# Altium footprint library IHLP-1212BZ.PcbLib: 1 footprints
Each footprint in its own frame and in the unit in brackets; x right, y up, seen from the top. Pads: shape width x height; smd on the part's side, far side on the other; paste and mask are expansions set on the pad; w line width, h text height; cw(c..) or ccw(c..) is an arc to the next point about the centre after c.
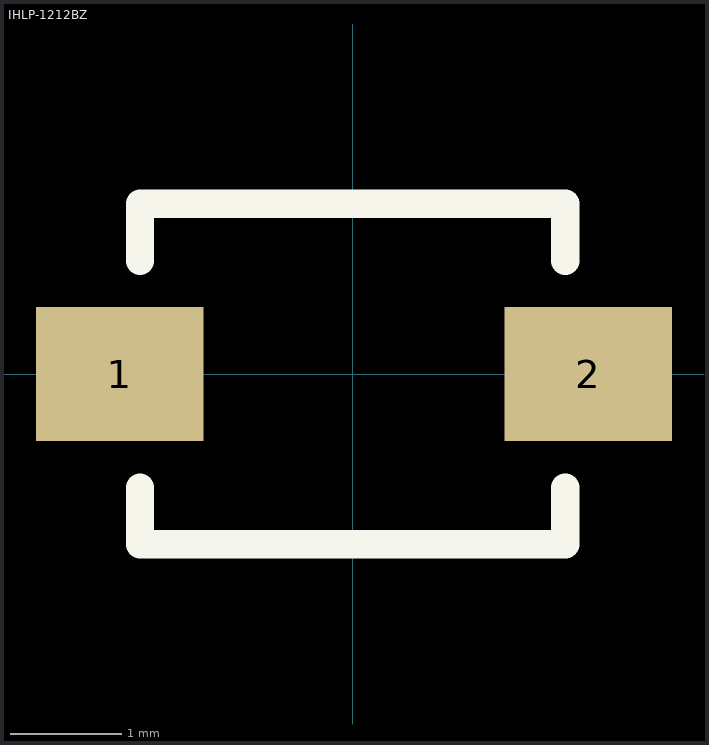
[diagram p0: the footprint, top view; thin cyan lines are the x and y axes]

## IHLP-1212BZ [mm]
height 2
pads (2):
  rect 1.5x1.2 smd: 1(-2.088,0) 2(2.112,0)
Top Overlay:
  lines w0.254: -1.905,-1.016 -1.905,-1.524 1.905,-1.524 1.905,-1.016 ; -1.905,1.016 -1.905,1.524 1.905,1.524 1.905,1.016
3D body: height 0.25, standoff 0, extent -3.302,1.27 -3.302,1.27
3D body: height 2, standoff 0, extent -1.905,-1.524 1.905,1.524